# Altium integrated library LED.IntLib: 1 symbol
Pins are listed as number, name and electrical type; pins without a type are passive.

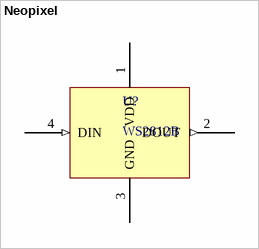
[diagram p0: symbol Neopixel]

## Neopixel
designator U?, comment WS2812B
footprint TSOP330P500X100-4N (TSOP, 4-Leads, Body 5.00x5.00mm, Pitch 3.30mm, IPC Medium Density)
pins: 1 VDD (power), 2 DOUT (out), 3 GND (power), 4 DIN (in)